# EAGLE library part AS-ITM-00019 (library tinycircuits)
MCU AVR 16KB FLASH 16MHZ 32VQFN
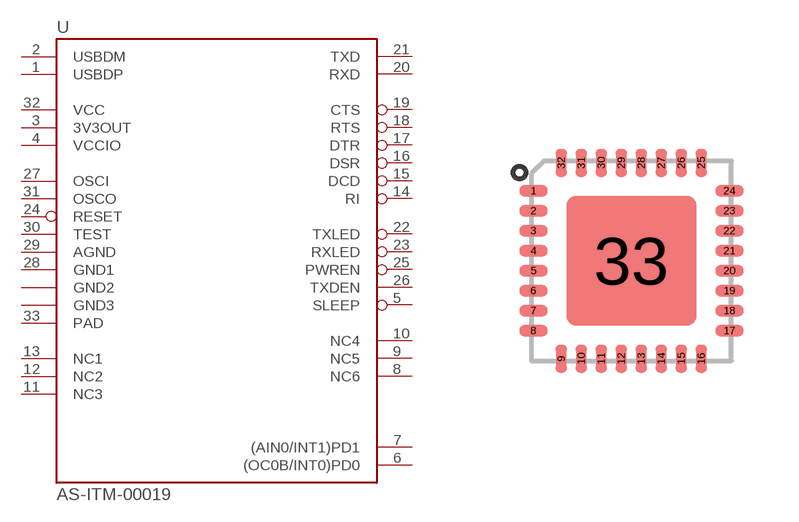
[diagram p5: symbol with the pads of MLF32; footprint MLF32]

Designator prefix U

## AS-ITM-00019MU (PARTNO: AS-ITM-00019; VALUE: ATMEGA16U2-MU)  [MLF32]
1  USBDP
2  USBDM
3  3V3OUT  pwr
4  VCCIO  pwr
5  SLEEP
6  (OC0B/INT0)PD0
7  (AIN0/INT1)PD1
8  NC6
9  NC5
10  NC4
11  NC3
12  NC2
13  NC1
14  RI
15  DCD
16  DSR
17  DTR
18  RTS
19  CTS
20  RXD
21  TXD
22  TXLED
23  RXLED
24  RESET  in
25  PWREN
26  TXDEN
27  OSCI  pas
28  GND1  pwr
29  AGND
30  TEST
31  OSCO  pwr
32  VCC  pwr
33  PAD  pwr

## Footprint MLF32 (pad centres in mm)
mlf-32
smd 0.7 x 0.28: 1 -2.45,1.75; 2 -2.45,1.25; 3 -2.45,0.75; 4 -2.45,0.25; 5 -2.45,-0.25; 6 -2.45,-0.75; 7 -2.45,-1.25; 8 -2.45,-1.75; 17 2.45,-1.75; 18 2.45,-1.25; 19 2.45,-0.75; 20 2.45,-0.25; 21 2.45,0.25; 22 2.45,0.75; 23 2.45,1.25; 24 2.45,1.75
smd 0.28 x 0.7: 9 -1.75,-2.45; 10 -1.25,-2.45; 11 -0.75,-2.45; 12 -0.25,-2.45; 13 0.25,-2.45; 14 0.75,-2.45; 15 1.25,-2.45; 16 1.75,-2.45; 25 1.75,2.45; 26 1.25,2.45; 27 0.75,2.45; 28 0.25,2.45; 29 -0.25,2.45; 30 -0.75,2.45; 31 -1.25,2.45; 32 -1.75,2.45
smd 3.254 x 3.254: 33 0,0